# Altium integrated library Linear Technology Power Management Hot Swap Controllers.IntLib: 992 symbols (part 4 of 93)
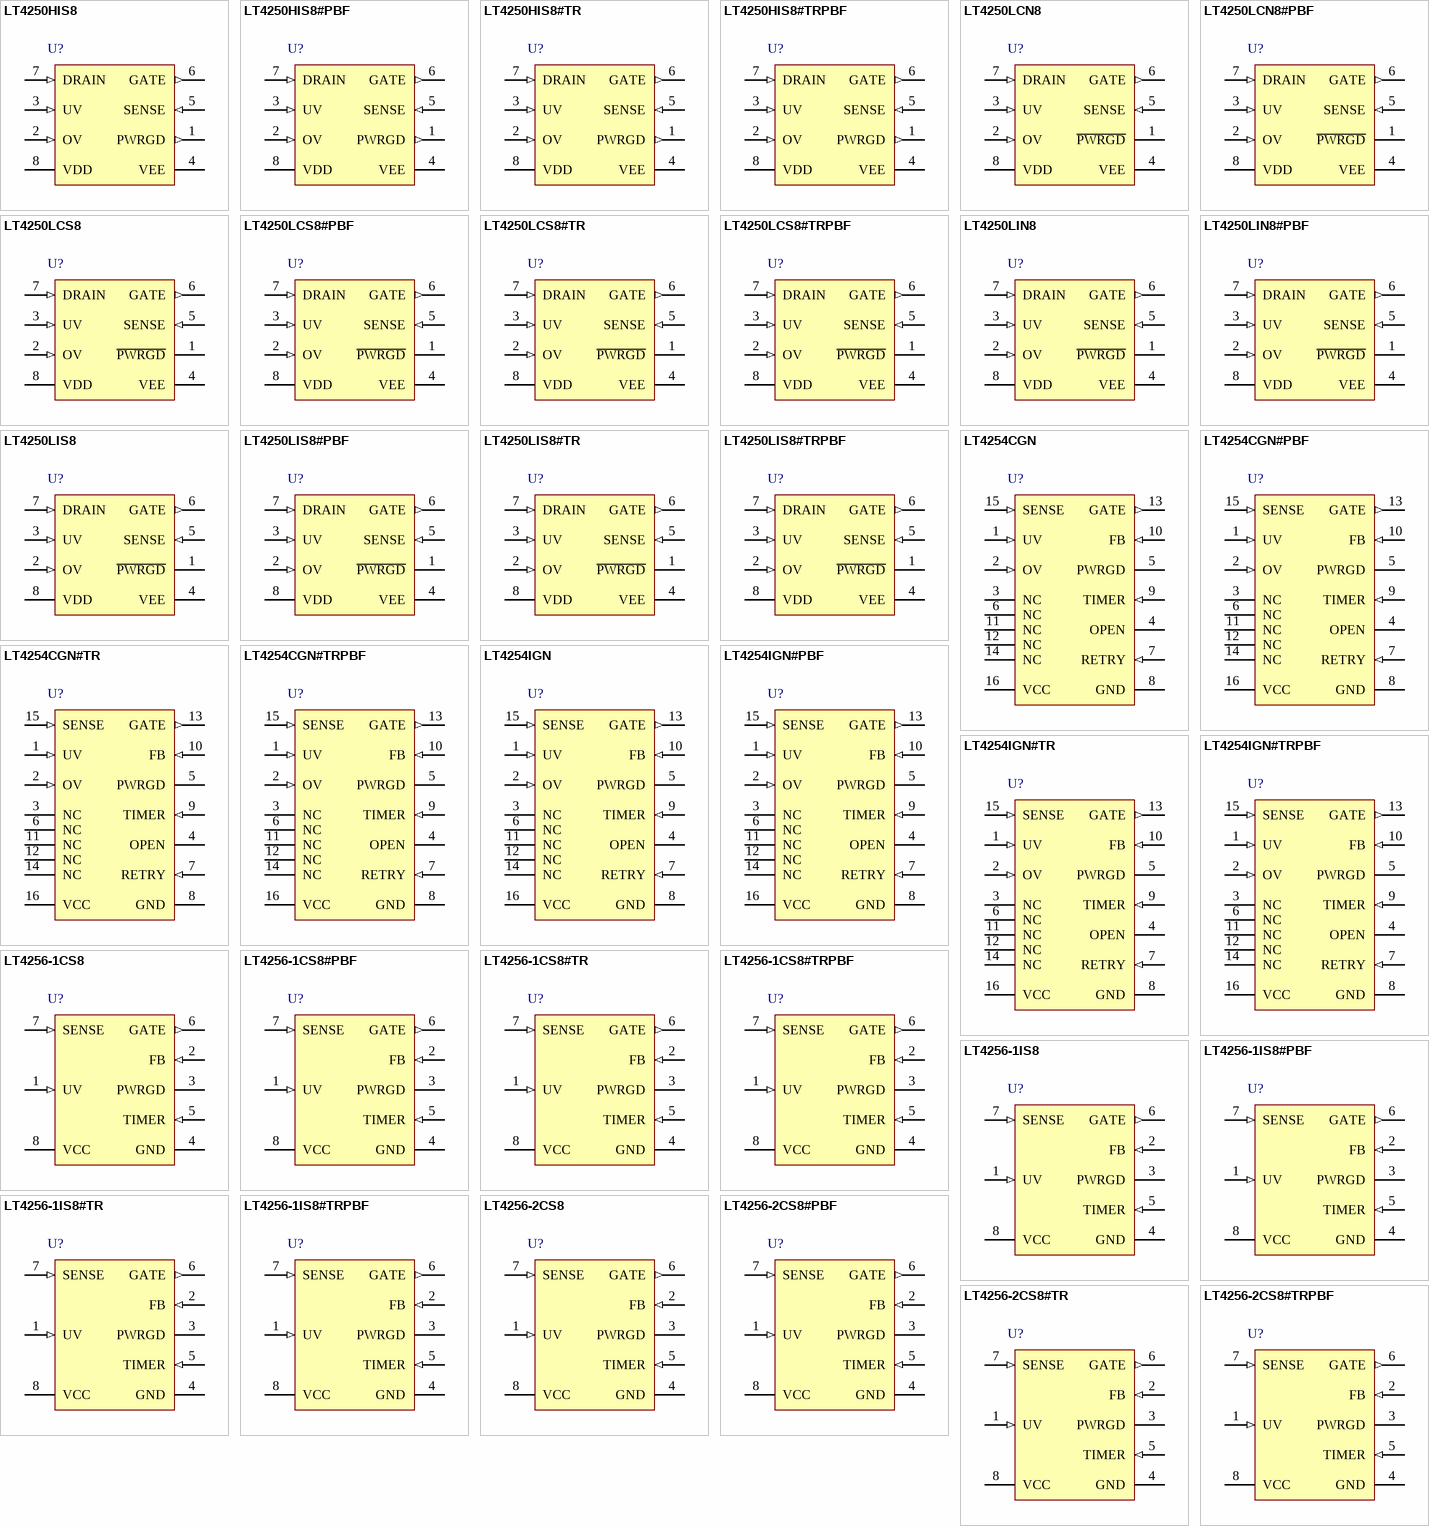
[diagram p40: symbols LT4250HIS8 to LT4256-2CS8#TRPBF]

## LT4254IGN
designator U?
Positive High Voltage Hot Swap Controller with Open-Circuit Detect, 10.8 to 36 V Vin, 16-pin SOP (GN-16), -40 to 85 degC; Manufacturer: Linear Technology; PartNumber: LT4254IGN; Active Limiting: yes; Circuit Breaker Accuracy(%): 20; Circuit Breaker Threshold: 50 mV; Circuit Breakers(#): 1; Extended Temp: C, I; Fast Comparator: no; In-Rush Current: Active; DatasheetVersion: Rev. B; PackageVersion: Rev. B, 03/2012; PackageReference: GN-16; PackageDescription: 16-Pin Plastic SSOP, Body 4.9 x 3.9 mm, Pitch 0.635 mm; Supplier 1: Digi-Key; Supplier Part Number 1: LT4254IGN-ND; Fault: no; Foldback: yes; Power Good: yes; Reset: no; RoHS: FALSE; Vin Range: 10.8 to 36 V; Mounting Technology: Surface Mount; ComponentLink1Description: Manufacturer URL; ComponentLink1URL: http://www.linear.com/; ComponentLink2Description: Datasheet; ComponentLink2URL: http://cds.linear.com/docs/en/datasheet/4254fb.pdf; ComponentLink3Description: Package Specification; ComponentLink3URL: http://cds.linear.com/docs/en/packaging/05081641_B_GN16.pdf
footprint LT-GN-16_N (SOP, 16-Leads, Body 5x4mm, Pitch 0.635mm, IPC Medium Density)
footprint LT-GN-16_L (SOP, 16-Leads, Body 5x4mm, Pitch 0.635mm, IPC High Density)
footprint LT-GN-16_M (SOP, 16-Leads, Body 5x4mm, Pitch 0.635mm, IPC Low Density)
pins: 1 UV (in) "Undervoltage Sense. UV is an input that enables the output voltage. When the UV pin is driven above 4V, the GATE pin starts charging and the output turns on. When the UV pin goes below 3.6V, the GATE pin discharges and the (See Datasheet)", 2 OV (in) "Overvoltage Sense. OV is an input that disables the output voltage. If OV ever goes above 4V, the GATE pin is discharged and the output shuts off. When OV goes below 3.6V, the GATE pin starts charging and the output turns (See Datasheet)", 3 NC, 4 OPEN (oc) "Open Circuit Detect Output. This pin is an open collector output that releases and is pulled high through an external resistor if the load current is less than (3.5mV/R5). If not used, leave this pin disconnected.", 5 PWRGD (hiz) "Open Collector Output to GND. PWRGD is pulled low whenever the voltage on FB falls below the high-to-low threshold voltage. It goes into a high impedance state when the voltage on FB exceeds the low-to-high threshold voltage.(See Datasheet)", 6 NC, 7 RETRY (in) "Current Fault Retry. RETRY commands the operational mode of the current limit. If the RETRY pin is floating, the LT4254 automatically restarts after a current fault. If it is connected to a voltage below 0.4V, the part (See Datasheet)", 8 GND (power) "Device Ground. This pin must be tied to a ground plane for best performance.", 9 TIMER (in) "Timing Input. An external timing capacitor from TIMER to GND programs the maximum time the part is allowed to remain in current limit. When the part goes into current limit, a 120uA pull-up current starts to charge the (See Datasheet)", 10 FB (in) "Power Good Comparator Input. FB monitors the output voltage through an external resistive divider. When the voltage on the FB pin is lower than the high-to-low threshold of 4V, the PWRGD pin is pulled low and released when (See Datasheet)", 11 NC, 12 NC, 13 GATE (out) "High Side Gate Drive for the External N-Channel MOSFET. An internal charge pump guarantees at least 10V of gate drive for VCC supply voltages above 20V and 4.5V gate drive for VCC supply voltages between 10.8V and 20V. The (See Datasheet)", 14 NC, 15 SENSE (in) "Current Limit Sense. A sense resistor is placed in the supply path between VCC and SENSE. The current limit circuit regulates the voltage across the sense resistor (VCC - SENSE) to 50mV while in current limit when FB is 2V (See Datasheet)", 16 VCC (power) "Input Supply Voltage. The positive supply input ranges from 10.8V to 36V for normal operation. ICC is typically 1.9mA. An internal circuit disables the LT4254 for inputs less than 9.8V (typ)."

## LT4254IGN#PBF
designator U?
Positive High Voltage Hot Swap Controller with Open-Circuit Detect, 10.8 to 36 V Vin, 16-pin SOP (GN-16), -40 to 85 degC, Pb-Free; Manufacturer: Linear Technology; PartNumber: LT4254IGN#PBF; Active Limiting: yes; Circuit Breaker Accuracy(%): 20; Circuit Breaker Threshold: 50 mV; Circuit Breakers(#): 1; Extended Temp: C, I; Fast Comparator: no; In-Rush Current: Active; DatasheetVersion: Rev. B; PackageVersion: Rev. B, 03/2012; PackageReference: GN-16; PackageDescription: 16-Pin Plastic SSOP, Body 4.9 x 3.9 mm, Pitch 0.635 mm; Supplier 1: Digi-Key; Supplier Part Number 1: LT4254IGN#PBF-ND; Supplier 2: Farnell; Supplier Part Number 2: 2295305; Supplier 3: Newark; Supplier Part Number 3: 57M8678; Fault: no; Foldback: yes; Power Good: yes; Reset: no; RoHS: TRUE; Vin Range: 10.8 to 36 V; Mounting Technology: Surface Mount; ComponentLink1Description: Manufacturer URL; ComponentLink1URL: http://www.linear.com/; ComponentLink2Description: Datasheet; ComponentLink2URL: http://cds.linear.com/docs/en/datasheet/4254fb.pdf; ComponentLink3Description: Package Specification; ComponentLink3URL: http://cds.linear.com/docs/en/packaging/05081641_B_GN16.pdf
footprint LT-GN-16_N (SOP, 16-Leads, Body 5x4mm, Pitch 0.635mm, IPC Medium Density)
footprint LT-GN-16_L (SOP, 16-Leads, Body 5x4mm, Pitch 0.635mm, IPC High Density)
footprint LT-GN-16_M (SOP, 16-Leads, Body 5x4mm, Pitch 0.635mm, IPC Low Density)
pins: 1 UV (in) "Undervoltage Sense. UV is an input that enables the output voltage. When the UV pin is driven above 4V, the GATE pin starts charging and the output turns on. When the UV pin goes below 3.6V, the GATE pin discharges and the (See Datasheet)", 2 OV (in) "Overvoltage Sense. OV is an input that disables the output voltage. If OV ever goes above 4V, the GATE pin is discharged and the output shuts off. When OV goes below 3.6V, the GATE pin starts charging and the output turns (See Datasheet)", 3 NC, 4 OPEN (oc) "Open Circuit Detect Output. This pin is an open collector output that releases and is pulled high through an external resistor if the load current is less than (3.5mV/R5). If not used, leave this pin disconnected.", 5 PWRGD (hiz) "Open Collector Output to GND. PWRGD is pulled low whenever the voltage on FB falls below the high-to-low threshold voltage. It goes into a high impedance state when the voltage on FB exceeds the low-to-high threshold voltage.(See Datasheet)", 6 NC, 7 RETRY (in) "Current Fault Retry. RETRY commands the operational mode of the current limit. If the RETRY pin is floating, the LT4254 automatically restarts after a current fault. If it is connected to a voltage below 0.4V, the part (See Datasheet)", 8 GND (power) "Device Ground. This pin must be tied to a ground plane for best performance.", 9 TIMER (in) "Timing Input. An external timing capacitor from TIMER to GND programs the maximum time the part is allowed to remain in current limit. When the part goes into current limit, a 120uA pull-up current starts to charge the (See Datasheet)", 10 FB (in) "Power Good Comparator Input. FB monitors the output voltage through an external resistive divider. When the voltage on the FB pin is lower than the high-to-low threshold of 4V, the PWRGD pin is pulled low and released when (See Datasheet)", 11 NC, 12 NC, 13 GATE (out) "High Side Gate Drive for the External N-Channel MOSFET. An internal charge pump guarantees at least 10V of gate drive for VCC supply voltages above 20V and 4.5V gate drive for VCC supply voltages between 10.8V and 20V. The (See Datasheet)", 14 NC, 15 SENSE (in) "Current Limit Sense. A sense resistor is placed in the supply path between VCC and SENSE. The current limit circuit regulates the voltage across the sense resistor (VCC - SENSE) to 50mV while in current limit when FB is 2V (See Datasheet)", 16 VCC (power) "Input Supply Voltage. The positive supply input ranges from 10.8V to 36V for normal operation. ICC is typically 1.9mA. An internal circuit disables the LT4254 for inputs less than 9.8V (typ)."

## LT4254IGN#TR
designator U?
Positive High Voltage Hot Swap Controller with Open-Circuit Detect, 10.8 to 36 V Vin, 16-pin SOP (GN-16), -40 to 85 degC, Tape and Reel; Manufacturer: Linear Technology; PartNumber: LT4254IGN#TR; Active Limiting: yes; Circuit Breaker Accuracy(%): 20; Circuit Breaker Threshold: 50 mV; Circuit Breakers(#): 1; Extended Temp: C, I; Fast Comparator: no; In-Rush Current: Active; DatasheetVersion: Rev. B; PackageVersion: Rev. B, 03/2012; PackageReference: GN-16; PackageDescription: 16-Pin Plastic SSOP, Body 4.9 x 3.9 mm, Pitch 0.635 mm; Supplier 1: Digi-Key; Supplier Part Number 1: LT4254IGN#TR-ND; Fault: no; Foldback: yes; Packing: Tape and Reel; Power Good: yes; Reset: no; RoHS: FALSE; Vin Range: 10.8 to 36 V; Mounting Technology: Surface Mount; ComponentLink1Description: Manufacturer URL; ComponentLink1URL: http://www.linear.com/; ComponentLink2Description: Datasheet; ComponentLink2URL: http://cds.linear.com/docs/en/datasheet/4254fb.pdf; ComponentLink3Description: Package Specification; ComponentLink3URL: http://cds.linear.com/docs/en/packaging/05081641_B_GN16.pdf
footprint LT-GN-16_N (SOP, 16-Leads, Body 5x4mm, Pitch 0.635mm, IPC Medium Density)
footprint LT-GN-16_L (SOP, 16-Leads, Body 5x4mm, Pitch 0.635mm, IPC High Density)
footprint LT-GN-16_M (SOP, 16-Leads, Body 5x4mm, Pitch 0.635mm, IPC Low Density)
pins: 1 UV (in) "Undervoltage Sense. UV is an input that enables the output voltage. When the UV pin is driven above 4V, the GATE pin starts charging and the output turns on. When the UV pin goes below 3.6V, the GATE pin discharges and the (See Datasheet)", 2 OV (in) "Overvoltage Sense. OV is an input that disables the output voltage. If OV ever goes above 4V, the GATE pin is discharged and the output shuts off. When OV goes below 3.6V, the GATE pin starts charging and the output turns (See Datasheet)", 3 NC, 4 OPEN (oc) "Open Circuit Detect Output. This pin is an open collector output that releases and is pulled high through an external resistor if the load current is less than (3.5mV/R5). If not used, leave this pin disconnected.", 5 PWRGD (hiz) "Open Collector Output to GND. PWRGD is pulled low whenever the voltage on FB falls below the high-to-low threshold voltage. It goes into a high impedance state when the voltage on FB exceeds the low-to-high threshold voltage.(See Datasheet)", 6 NC, 7 RETRY (in) "Current Fault Retry. RETRY commands the operational mode of the current limit. If the RETRY pin is floating, the LT4254 automatically restarts after a current fault. If it is connected to a voltage below 0.4V, the part (See Datasheet)", 8 GND (power) "Device Ground. This pin must be tied to a ground plane for best performance.", 9 TIMER (in) "Timing Input. An external timing capacitor from TIMER to GND programs the maximum time the part is allowed to remain in current limit. When the part goes into current limit, a 120uA pull-up current starts to charge the (See Datasheet)", 10 FB (in) "Power Good Comparator Input. FB monitors the output voltage through an external resistive divider. When the voltage on the FB pin is lower than the high-to-low threshold of 4V, the PWRGD pin is pulled low and released when (See Datasheet)", 11 NC, 12 NC, 13 GATE (out) "High Side Gate Drive for the External N-Channel MOSFET. An internal charge pump guarantees at least 10V of gate drive for VCC supply voltages above 20V and 4.5V gate drive for VCC supply voltages between 10.8V and 20V. The (See Datasheet)", 14 NC, 15 SENSE (in) "Current Limit Sense. A sense resistor is placed in the supply path between VCC and SENSE. The current limit circuit regulates the voltage across the sense resistor (VCC - SENSE) to 50mV while in current limit when FB is 2V (See Datasheet)", 16 VCC (power) "Input Supply Voltage. The positive supply input ranges from 10.8V to 36V for normal operation. ICC is typically 1.9mA. An internal circuit disables the LT4254 for inputs less than 9.8V (typ)."

## LT4254IGN#TRPBF
designator U?
Positive High Voltage Hot Swap Controller with Open-Circuit Detect, 10.8 to 36 V Vin, 16-pin SOP (GN-16), -40 to 85 degC, Pb-Free, Tape and Reel; Manufacturer: Linear Technology; PartNumber: LT4254IGN#TRPBF; Active Limiting: yes; Circuit Breaker Accuracy(%): 20; Circuit Breaker Threshold: 50 mV; Circuit Breakers(#): 1; Extended Temp: C, I; Fast Comparator: no; In-Rush Current: Active; DatasheetVersion: Rev. B; PackageVersion: Rev. B, 03/2012; PackageReference: GN-16; PackageDescription: 16-Pin Plastic SSOP, Body 4.9 x 3.9 mm, Pitch 0.635 mm; Supplier 1: Digi-Key; Supplier Part Number 1: LT4254IGN#TRPBF-ND; Supplier 2: Newark; Supplier Part Number 2: 57M8680; Fault: no; Foldback: yes; Packing: Tape and Reel; Power Good: yes; Reset: no; RoHS: TRUE; Vin Range: 10.8 to 36 V; Mounting Technology: Surface Mount; ComponentLink1Description: Manufacturer URL; ComponentLink1URL: http://www.linear.com/; ComponentLink2Description: Datasheet; ComponentLink2URL: http://cds.linear.com/docs/en/datasheet/4254fb.pdf; ComponentLink3Description: Package Specification; ComponentLink3URL: http://cds.linear.com/docs/en/packaging/05081641_B_GN16.pdf
footprint LT-GN-16_N (SOP, 16-Leads, Body 5x4mm, Pitch 0.635mm, IPC Medium Density)
footprint LT-GN-16_L (SOP, 16-Leads, Body 5x4mm, Pitch 0.635mm, IPC High Density)
footprint LT-GN-16_M (SOP, 16-Leads, Body 5x4mm, Pitch 0.635mm, IPC Low Density)
pins: 1 UV (in) "Undervoltage Sense. UV is an input that enables the output voltage. When the UV pin is driven above 4V, the GATE pin starts charging and the output turns on. When the UV pin goes below 3.6V, the GATE pin discharges and the (See Datasheet)", 2 OV (in) "Overvoltage Sense. OV is an input that disables the output voltage. If OV ever goes above 4V, the GATE pin is discharged and the output shuts off. When OV goes below 3.6V, the GATE pin starts charging and the output turns (See Datasheet)", 3 NC, 4 OPEN (oc) "Open Circuit Detect Output. This pin is an open collector output that releases and is pulled high through an external resistor if the load current is less than (3.5mV/R5). If not used, leave this pin disconnected.", 5 PWRGD (hiz) "Open Collector Output to GND. PWRGD is pulled low whenever the voltage on FB falls below the high-to-low threshold voltage. It goes into a high impedance state when the voltage on FB exceeds the low-to-high threshold voltage.(See Datasheet)", 6 NC, 7 RETRY (in) "Current Fault Retry. RETRY commands the operational mode of the current limit. If the RETRY pin is floating, the LT4254 automatically restarts after a current fault. If it is connected to a voltage below 0.4V, the part (See Datasheet)", 8 GND (power) "Device Ground. This pin must be tied to a ground plane for best performance.", 9 TIMER (in) "Timing Input. An external timing capacitor from TIMER to GND programs the maximum time the part is allowed to remain in current limit. When the part goes into current limit, a 120uA pull-up current starts to charge the (See Datasheet)", 10 FB (in) "Power Good Comparator Input. FB monitors the output voltage through an external resistive divider. When the voltage on the FB pin is lower than the high-to-low threshold of 4V, the PWRGD pin is pulled low and released when (See Datasheet)", 11 NC, 12 NC, 13 GATE (out) "High Side Gate Drive for the External N-Channel MOSFET. An internal charge pump guarantees at least 10V of gate drive for VCC supply voltages above 20V and 4.5V gate drive for VCC supply voltages between 10.8V and 20V. The (See Datasheet)", 14 NC, 15 SENSE (in) "Current Limit Sense. A sense resistor is placed in the supply path between VCC and SENSE. The current limit circuit regulates the voltage across the sense resistor (VCC - SENSE) to 50mV while in current limit when FB is 2V (See Datasheet)", 16 VCC (power) "Input Supply Voltage. The positive supply input ranges from 10.8V to 36V for normal operation. ICC is typically 1.9mA. An internal circuit disables the LT4254 for inputs less than 9.8V (typ)."

## LT4256-1CS8
designator U?
Positive High Voltage Hot Swap Controller, 10.8 to 80 V Vin, 8-pin SOIC (S8-8), 0 to 70 degC; Manufacturer: Linear Technology; PartNumber: LT4256-1CS8; Active Limiting: yes; Circuit Breaker Accuracy(%): 18; Circuit Breaker Threshold: 55 mV; Circuit Breakers(#): 1; Extended Temp: C, I; Fast Comparator: no; In-Rush Current: Active; DatasheetVersion: Rev. A; PackageVersion: Rev. G, 03/2012; PackageReference: S8-8; PackageDescription: 8-Pin Plastic Small Outline (Narrow .150 Inch), Body 4.9 x 3.9 mm, Pitch 1.27 mm; Supplier 1: Digi-Key; Supplier Part Number 1: LT4256-1CS8-ND; Supplier 2: Newark; Supplier Part Number 2: 57M8681; Fault: no; Foldback: yes; Power Good: yes; Reset: no; RoHS: FALSE; Vin Range: 10.8 to 80 V; Mounting Technology: Surface Mount; ComponentLink1Description: Manufacturer URL; ComponentLink1URL: http://www.linear.com/; ComponentLink2Description: Datasheet; ComponentLink2URL: http://cds.linear.com/docs/en/datasheet/425612fa.pm6.pdf; ComponentLink3Description: Package Specification; ComponentLink3URL: http://cds.linear.com/docs/en/packaging/05081610_G_SO8.pdf
footprint LT-S8-8_N (SOIC, 8-Leads, Body 5x4mm, Pitch 1.27mm, IPC Medium Density)
footprint LT-S8-8_L (SOIC, 8-Leads, Body 5x4mm, Pitch 1.27mm, IPC High Density)
footprint LT-S8-8_M (SOIC, 8-Leads, Body 5x4mm, Pitch 1.27mm, IPC Low Density)
pins: 1 UV (in) "Undervoltage Sense. UV is an input that enables the output voltage. When UV is driven above 4V, GATE will start charging and the output turns on. When UV goes below 3.6V, GATE discharges and the output shuts off. Pulsing UV (See Datasheet)", 2 FB (in) "Power Good Comparator Input. FB monitors the output voltage through an external resistive divider. When the voltage on FB is lower than the high-to-low threshold of 3.99V, PWRGD is pulled low and released when FB is pulled (See Datasheet)", 3 PWRGD (hiz) "Power Good Output. PWRGD is pulled low whenever the voltage on FB falls below the 3.99V high-to-low threshold voltage. It goes into a high impedance state when the voltage on FB exceeds the low-to-high threshold voltage. An (See Datasheet)", 4 GND (power) "Device Ground. This pin must be tied to a ground plane for best performance.", 5 TIMER (in) "Timing Input. An external timing capacitor from TIMER to GND programs the maximum time the part is allowed to remain in current limit. When the part goes into current limit, a 105uA pull-up current source starts to charge (See Datasheet)", 6 GATE (out) "High Side Gate Drive for the External NChannel MOSFET. An internal charge pump guarantees at least 10V of gate drive for VCC supply voltages above 20V and 4.5V of gate drive for VCC supply voltages between 10.8V and 20V. The (See Datasheet)", 7 SENSE (in) "Current Limit Sense Input. A sense resistor is placed in the supply path between VCC and SENSE. The current limit circuit regulates the voltage across the sense resistor (VCC - SENSE) to 55mV while in current limit when FB (See Datasheet)", 8 VCC (power) "Input Supply Voltage. The positive supply input ranges from 10.8V to 80V for normal operation. ICC is typically 1.8mA. An internal circuit disables the LT4256-1/LT4256-2 for inputs less than 9.8V (typ)."

## LT4256-1CS8#PBF
designator U?
Positive High Voltage Hot Swap Controller, 10.8 to 80 V Vin, 8-pin SOIC (S8-8), 0 to 70 degC, Pb-Free; Manufacturer: Linear Technology; PartNumber: LT4256-1CS8#PBF; Active Limiting: yes; Circuit Breaker Accuracy(%): 18; Circuit Breaker Threshold: 55 mV; Circuit Breakers(#): 1; Extended Temp: C, I; Fast Comparator: no; In-Rush Current: Active; DatasheetVersion: Rev. A; PackageVersion: Rev. G, 03/2012; PackageReference: S8-8; PackageDescription: 8-Pin Plastic Small Outline (Narrow .150 Inch), Body 4.9 x 3.9 mm, Pitch 1.27 mm; Supplier 1: Digi-Key; Supplier Part Number 1: LT4256-1CS8#PBF-ND; Supplier 2: Farnell; Supplier Part Number 2: 2295306; Supplier 3: Newark; Supplier Part Number 3: 57M8682; Fault: no; Foldback: yes; Power Good: yes; Reset: no; RoHS: TRUE; Vin Range: 10.8 to 80 V; Mounting Technology: Surface Mount; ComponentLink1Description: Manufacturer URL; ComponentLink1URL: http://www.linear.com/; ComponentLink2Description: Datasheet; ComponentLink2URL: http://cds.linear.com/docs/en/datasheet/425612fa.pm6.pdf; ComponentLink3Description: Package Specification; ComponentLink3URL: http://cds.linear.com/docs/en/packaging/05081610_G_SO8.pdf
footprint LT-S8-8_N (SOIC, 8-Leads, Body 5x4mm, Pitch 1.27mm, IPC Medium Density)
footprint LT-S8-8_L (SOIC, 8-Leads, Body 5x4mm, Pitch 1.27mm, IPC High Density)
footprint LT-S8-8_M (SOIC, 8-Leads, Body 5x4mm, Pitch 1.27mm, IPC Low Density)
pins: 1 UV (in) "Undervoltage Sense. UV is an input that enables the output voltage. When UV is driven above 4V, GATE will start charging and the output turns on. When UV goes below 3.6V, GATE discharges and the output shuts off. Pulsing UV (See Datasheet)", 2 FB (in) "Power Good Comparator Input. FB monitors the output voltage through an external resistive divider. When the voltage on FB is lower than the high-to-low threshold of 3.99V, PWRGD is pulled low and released when FB is pulled (See Datasheet)", 3 PWRGD (hiz) "Power Good Output. PWRGD is pulled low whenever the voltage on FB falls below the 3.99V high-to-low threshold voltage. It goes into a high impedance state when the voltage on FB exceeds the low-to-high threshold voltage. An (See Datasheet)", 4 GND (power) "Device Ground. This pin must be tied to a ground plane for best performance.", 5 TIMER (in) "Timing Input. An external timing capacitor from TIMER to GND programs the maximum time the part is allowed to remain in current limit. When the part goes into current limit, a 105uA pull-up current source starts to charge (See Datasheet)", 6 GATE (out) "High Side Gate Drive for the External NChannel MOSFET. An internal charge pump guarantees at least 10V of gate drive for VCC supply voltages above 20V and 4.5V of gate drive for VCC supply voltages between 10.8V and 20V. The (See Datasheet)", 7 SENSE (in) "Current Limit Sense Input. A sense resistor is placed in the supply path between VCC and SENSE. The current limit circuit regulates the voltage across the sense resistor (VCC - SENSE) to 55mV while in current limit when FB (See Datasheet)", 8 VCC (power) "Input Supply Voltage. The positive supply input ranges from 10.8V to 80V for normal operation. ICC is typically 1.8mA. An internal circuit disables the LT4256-1/LT4256-2 for inputs less than 9.8V (typ)."

## LT4256-1CS8#TR
designator U?
Positive High Voltage Hot Swap Controller, 10.8 to 80 V Vin, 8-pin SOIC (S8-8), 0 to 70 degC, Tape and Reel; Manufacturer: Linear Technology; PartNumber: LT4256-1CS8#TR; Active Limiting: yes; Circuit Breaker Accuracy(%): 18; Circuit Breaker Threshold: 55 mV; Circuit Breakers(#): 1; Extended Temp: C, I; Fast Comparator: no; In-Rush Current: Active; DatasheetVersion: Rev. A; PackageVersion: Rev. G, 03/2012; PackageReference: S8-8; PackageDescription: 8-Pin Plastic Small Outline (Narrow .150 Inch), Body 4.9 x 3.9 mm, Pitch 1.27 mm; Supplier 1: Digi-Key; Supplier Part Number 1: LT4256-1CS8#TR-ND; Fault: no; Foldback: yes; Packing: Tape and Reel; Power Good: yes; Reset: no; RoHS: FALSE; Vin Range: 10.8 to 80 V; Mounting Technology: Surface Mount; ComponentLink1Description: Manufacturer URL; ComponentLink1URL: http://www.linear.com/; ComponentLink2Description: Datasheet; ComponentLink2URL: http://cds.linear.com/docs/en/datasheet/425612fa.pm6.pdf; ComponentLink3Description: Package Specification; ComponentLink3URL: http://cds.linear.com/docs/en/packaging/05081610_G_SO8.pdf
footprint LT-S8-8_N (SOIC, 8-Leads, Body 5x4mm, Pitch 1.27mm, IPC Medium Density)
footprint LT-S8-8_L (SOIC, 8-Leads, Body 5x4mm, Pitch 1.27mm, IPC High Density)
footprint LT-S8-8_M (SOIC, 8-Leads, Body 5x4mm, Pitch 1.27mm, IPC Low Density)
pins: 1 UV (in) "Undervoltage Sense. UV is an input that enables the output voltage. When UV is driven above 4V, GATE will start charging and the output turns on. When UV goes below 3.6V, GATE discharges and the output shuts off. Pulsing UV (See Datasheet)", 2 FB (in) "Power Good Comparator Input. FB monitors the output voltage through an external resistive divider. When the voltage on FB is lower than the high-to-low threshold of 3.99V, PWRGD is pulled low and released when FB is pulled (See Datasheet)", 3 PWRGD (hiz) "Power Good Output. PWRGD is pulled low whenever the voltage on FB falls below the 3.99V high-to-low threshold voltage. It goes into a high impedance state when the voltage on FB exceeds the low-to-high threshold voltage. An (See Datasheet)", 4 GND (power) "Device Ground. This pin must be tied to a ground plane for best performance.", 5 TIMER (in) "Timing Input. An external timing capacitor from TIMER to GND programs the maximum time the part is allowed to remain in current limit. When the part goes into current limit, a 105uA pull-up current source starts to charge (See Datasheet)", 6 GATE (out) "High Side Gate Drive for the External NChannel MOSFET. An internal charge pump guarantees at least 10V of gate drive for VCC supply voltages above 20V and 4.5V of gate drive for VCC supply voltages between 10.8V and 20V. The (See Datasheet)", 7 SENSE (in) "Current Limit Sense Input. A sense resistor is placed in the supply path between VCC and SENSE. The current limit circuit regulates the voltage across the sense resistor (VCC - SENSE) to 55mV while in current limit when FB (See Datasheet)", 8 VCC (power) "Input Supply Voltage. The positive supply input ranges from 10.8V to 80V for normal operation. ICC is typically 1.8mA. An internal circuit disables the LT4256-1/LT4256-2 for inputs less than 9.8V (typ)."

## LT4256-1CS8#TRPBF
designator U?
Positive High Voltage Hot Swap Controller, 10.8 to 80 V Vin, 8-pin SOIC (S8-8), 0 to 70 degC, Pb-Free, Tape and Reel; Manufacturer: Linear Technology; PartNumber: LT4256-1CS8#TRPBF; Active Limiting: yes; Circuit Breaker Accuracy(%): 18; Circuit Breaker Threshold: 55 mV; Circuit Breakers(#): 1; Extended Temp: C, I; Fast Comparator: no; In-Rush Current: Active; DatasheetVersion: Rev. A; PackageVersion: Rev. G, 03/2012; PackageReference: S8-8; PackageDescription: 8-Pin Plastic Small Outline (Narrow .150 Inch), Body 4.9 x 3.9 mm, Pitch 1.27 mm; Supplier 1: Digi-Key; Supplier Part Number 1: LT4256-1CS8#TRPBF-ND; Supplier 2: Newark; Supplier Part Number 2: 57M8684; Fault: no; Foldback: yes; Packing: Tape and Reel; Power Good: yes; Reset: no; RoHS: TRUE; Vin Range: 10.8 to 80 V; Mounting Technology: Surface Mount; ComponentLink1Description: Manufacturer URL; ComponentLink1URL: http://www.linear.com/; ComponentLink2Description: Datasheet; ComponentLink2URL: http://cds.linear.com/docs/en/datasheet/425612fa.pm6.pdf; ComponentLink3Description: Package Specification; ComponentLink3URL: http://cds.linear.com/docs/en/packaging/05081610_G_SO8.pdf
footprint LT-S8-8_N (SOIC, 8-Leads, Body 5x4mm, Pitch 1.27mm, IPC Medium Density)
footprint LT-S8-8_L (SOIC, 8-Leads, Body 5x4mm, Pitch 1.27mm, IPC High Density)
footprint LT-S8-8_M (SOIC, 8-Leads, Body 5x4mm, Pitch 1.27mm, IPC Low Density)
pins: 1 UV (in) "Undervoltage Sense. UV is an input that enables the output voltage. When UV is driven above 4V, GATE will start charging and the output turns on. When UV goes below 3.6V, GATE discharges and the output shuts off. Pulsing UV (See Datasheet)", 2 FB (in) "Power Good Comparator Input. FB monitors the output voltage through an external resistive divider. When the voltage on FB is lower than the high-to-low threshold of 3.99V, PWRGD is pulled low and released when FB is pulled (See Datasheet)", 3 PWRGD (hiz) "Power Good Output. PWRGD is pulled low whenever the voltage on FB falls below the 3.99V high-to-low threshold voltage. It goes into a high impedance state when the voltage on FB exceeds the low-to-high threshold voltage. An (See Datasheet)", 4 GND (power) "Device Ground. This pin must be tied to a ground plane for best performance.", 5 TIMER (in) "Timing Input. An external timing capacitor from TIMER to GND programs the maximum time the part is allowed to remain in current limit. When the part goes into current limit, a 105uA pull-up current source starts to charge (See Datasheet)", 6 GATE (out) "High Side Gate Drive for the External NChannel MOSFET. An internal charge pump guarantees at least 10V of gate drive for VCC supply voltages above 20V and 4.5V of gate drive for VCC supply voltages between 10.8V and 20V. The (See Datasheet)", 7 SENSE (in) "Current Limit Sense Input. A sense resistor is placed in the supply path between VCC and SENSE. The current limit circuit regulates the voltage across the sense resistor (VCC - SENSE) to 55mV while in current limit when FB (See Datasheet)", 8 VCC (power) "Input Supply Voltage. The positive supply input ranges from 10.8V to 80V for normal operation. ICC is typically 1.8mA. An internal circuit disables the LT4256-1/LT4256-2 for inputs less than 9.8V (typ)."

## LT4256-1IS8
designator U?
Positive High Voltage Hot Swap Controller, 10.8 to 80 V Vin, 8-pin SOIC (S8-8), -40 to 85 degC; Manufacturer: Linear Technology; PartNumber: LT4256-1IS8; Active Limiting: yes; Circuit Breaker Accuracy(%): 18; Circuit Breaker Threshold: 55 mV; Circuit Breakers(#): 1; Extended Temp: C, I; Fast Comparator: no; In-Rush Current: Active; DatasheetVersion: Rev. A; PackageVersion: Rev. G, 03/2012; PackageReference: S8-8; PackageDescription: 8-Pin Plastic Small Outline (Narrow .150 Inch), Body 4.9 x 3.9 mm, Pitch 1.27 mm; Supplier 1: Digi-Key; Supplier Part Number 1: LT4256-1IS8-ND; Supplier 2: Newark; Supplier Part Number 2: 57M8685; Fault: no; Foldback: yes; Power Good: yes; Reset: no; RoHS: FALSE; Vin Range: 10.8 to 80 V; Mounting Technology: Surface Mount; ComponentLink1Description: Manufacturer URL; ComponentLink1URL: http://www.linear.com/; ComponentLink2Description: Datasheet; ComponentLink2URL: http://cds.linear.com/docs/en/datasheet/425612fa.pm6.pdf; ComponentLink3Description: Package Specification; ComponentLink3URL: http://cds.linear.com/docs/en/packaging/05081610_G_SO8.pdf
footprint LT-S8-8_N (SOIC, 8-Leads, Body 5x4mm, Pitch 1.27mm, IPC Medium Density)
footprint LT-S8-8_L (SOIC, 8-Leads, Body 5x4mm, Pitch 1.27mm, IPC High Density)
footprint LT-S8-8_M (SOIC, 8-Leads, Body 5x4mm, Pitch 1.27mm, IPC Low Density)
pins: 1 UV (in) "Undervoltage Sense. UV is an input that enables the output voltage. When UV is driven above 4V, GATE will start charging and the output turns on. When UV goes below 3.6V, GATE discharges and the output shuts off. Pulsing UV (See Datasheet)", 2 FB (in) "Power Good Comparator Input. FB monitors the output voltage through an external resistive divider. When the voltage on FB is lower than the high-to-low threshold of 3.99V, PWRGD is pulled low and released when FB is pulled (See Datasheet)", 3 PWRGD (hiz) "Power Good Output. PWRGD is pulled low whenever the voltage on FB falls below the 3.99V high-to-low threshold voltage. It goes into a high impedance state when the voltage on FB exceeds the low-to-high threshold voltage. An (See Datasheet)", 4 GND (power) "Device Ground. This pin must be tied to a ground plane for best performance.", 5 TIMER (in) "Timing Input. An external timing capacitor from TIMER to GND programs the maximum time the part is allowed to remain in current limit. When the part goes into current limit, a 105uA pull-up current source starts to charge (See Datasheet)", 6 GATE (out) "High Side Gate Drive for the External NChannel MOSFET. An internal charge pump guarantees at least 10V of gate drive for VCC supply voltages above 20V and 4.5V of gate drive for VCC supply voltages between 10.8V and 20V. The (See Datasheet)", 7 SENSE (in) "Current Limit Sense Input. A sense resistor is placed in the supply path between VCC and SENSE. The current limit circuit regulates the voltage across the sense resistor (VCC - SENSE) to 55mV while in current limit when FB (See Datasheet)", 8 VCC (power) "Input Supply Voltage. The positive supply input ranges from 10.8V to 80V for normal operation. ICC is typically 1.8mA. An internal circuit disables the LT4256-1/LT4256-2 for inputs less than 9.8V (typ)."

## LT4256-1IS8#PBF
designator U?
Positive High Voltage Hot Swap Controller, 10.8 to 80 V Vin, 8-pin SOIC (S8-8), -40 to 85 degC, Pb-Free; Manufacturer: Linear Technology; PartNumber: LT4256-1IS8#PBF; Active Limiting: yes; Circuit Breaker Accuracy(%): 18; Circuit Breaker Threshold: 55 mV; Circuit Breakers(#): 1; Extended Temp: C, I; Fast Comparator: no; In-Rush Current: Active; DatasheetVersion: Rev. A; PackageVersion: Rev. G, 03/2012; PackageReference: S8-8; PackageDescription: 8-Pin Plastic Small Outline (Narrow .150 Inch), Body 4.9 x 3.9 mm, Pitch 1.27 mm; Supplier 1: Digi-Key; Supplier Part Number 1: LT4256-1IS8#PBF-ND; Supplier 2: Farnell; Supplier Part Number 2: 2295307; Supplier 3: Newark; Supplier Part Number 3: 57M8686; Fault: no; Foldback: yes; Power Good: yes; Reset: no; RoHS: TRUE; Vin Range: 10.8 to 80 V; Mounting Technology: Surface Mount; ComponentLink1Description: Manufacturer URL; ComponentLink1URL: http://www.linear.com/; ComponentLink2Description: Datasheet; ComponentLink2URL: http://cds.linear.com/docs/en/datasheet/425612fa.pm6.pdf; ComponentLink3Description: Package Specification; ComponentLink3URL: http://cds.linear.com/docs/en/packaging/05081610_G_SO8.pdf
footprint LT-S8-8_N (SOIC, 8-Leads, Body 5x4mm, Pitch 1.27mm, IPC Medium Density)
footprint LT-S8-8_L (SOIC, 8-Leads, Body 5x4mm, Pitch 1.27mm, IPC High Density)
footprint LT-S8-8_M (SOIC, 8-Leads, Body 5x4mm, Pitch 1.27mm, IPC Low Density)
pins: 1 UV (in) "Undervoltage Sense. UV is an input that enables the output voltage. When UV is driven above 4V, GATE will start charging and the output turns on. When UV goes below 3.6V, GATE discharges and the output shuts off. Pulsing UV (See Datasheet)", 2 FB (in) "Power Good Comparator Input. FB monitors the output voltage through an external resistive divider. When the voltage on FB is lower than the high-to-low threshold of 3.99V, PWRGD is pulled low and released when FB is pulled (See Datasheet)", 3 PWRGD (hiz) "Power Good Output. PWRGD is pulled low whenever the voltage on FB falls below the 3.99V high-to-low threshold voltage. It goes into a high impedance state when the voltage on FB exceeds the low-to-high threshold voltage. An (See Datasheet)", 4 GND (power) "Device Ground. This pin must be tied to a ground plane for best performance.", 5 TIMER (in) "Timing Input. An external timing capacitor from TIMER to GND programs the maximum time the part is allowed to remain in current limit. When the part goes into current limit, a 105uA pull-up current source starts to charge (See Datasheet)", 6 GATE (out) "High Side Gate Drive for the External NChannel MOSFET. An internal charge pump guarantees at least 10V of gate drive for VCC supply voltages above 20V and 4.5V of gate drive for VCC supply voltages between 10.8V and 20V. The (See Datasheet)", 7 SENSE (in) "Current Limit Sense Input. A sense resistor is placed in the supply path between VCC and SENSE. The current limit circuit regulates the voltage across the sense resistor (VCC - SENSE) to 55mV while in current limit when FB (See Datasheet)", 8 VCC (power) "Input Supply Voltage. The positive supply input ranges from 10.8V to 80V for normal operation. ICC is typically 1.8mA. An internal circuit disables the LT4256-1/LT4256-2 for inputs less than 9.8V (typ)."

## LT4256-1IS8#TR
designator U?
Positive High Voltage Hot Swap Controller, 10.8 to 80 V Vin, 8-pin SOIC (S8-8), -40 to 85 degC, Tape and Reel; Manufacturer: Linear Technology; PartNumber: LT4256-1IS8#TR; Active Limiting: yes; Circuit Breaker Accuracy(%): 18; Circuit Breaker Threshold: 55 mV; Circuit Breakers(#): 1; Extended Temp: C, I; Fast Comparator: no; In-Rush Current: Active; DatasheetVersion: Rev. A; PackageVersion: Rev. G, 03/2012; PackageReference: S8-8; PackageDescription: 8-Pin Plastic Small Outline (Narrow .150 Inch), Body 4.9 x 3.9 mm, Pitch 1.27 mm; Supplier 1: Digi-Key; Supplier Part Number 1: LT4256-1IS8#TR-ND; Supplier 2: Newark; Supplier Part Number 2: 57M8687; Fault: no; Foldback: yes; Packing: Tape and Reel; Power Good: yes; Reset: no; RoHS: FALSE; Vin Range: 10.8 to 80 V; Mounting Technology: Surface Mount; ComponentLink1Description: Manufacturer URL; ComponentLink1URL: http://www.linear.com/; ComponentLink2Description: Datasheet; ComponentLink2URL: http://cds.linear.com/docs/en/datasheet/425612fa.pm6.pdf; ComponentLink3Description: Package Specification; ComponentLink3URL: http://cds.linear.com/docs/en/packaging/05081610_G_SO8.pdf
footprint LT-S8-8_N (SOIC, 8-Leads, Body 5x4mm, Pitch 1.27mm, IPC Medium Density)
footprint LT-S8-8_L (SOIC, 8-Leads, Body 5x4mm, Pitch 1.27mm, IPC High Density)
footprint LT-S8-8_M (SOIC, 8-Leads, Body 5x4mm, Pitch 1.27mm, IPC Low Density)
pins: 1 UV (in) "Undervoltage Sense. UV is an input that enables the output voltage. When UV is driven above 4V, GATE will start charging and the output turns on. When UV goes below 3.6V, GATE discharges and the output shuts off. Pulsing UV (See Datasheet)", 2 FB (in) "Power Good Comparator Input. FB monitors the output voltage through an external resistive divider. When the voltage on FB is lower than the high-to-low threshold of 3.99V, PWRGD is pulled low and released when FB is pulled (See Datasheet)", 3 PWRGD (hiz) "Power Good Output. PWRGD is pulled low whenever the voltage on FB falls below the 3.99V high-to-low threshold voltage. It goes into a high impedance state when the voltage on FB exceeds the low-to-high threshold voltage. An (See Datasheet)", 4 GND (power) "Device Ground. This pin must be tied to a ground plane for best performance.", 5 TIMER (in) "Timing Input. An external timing capacitor from TIMER to GND programs the maximum time the part is allowed to remain in current limit. When the part goes into current limit, a 105uA pull-up current source starts to charge (See Datasheet)", 6 GATE (out) "High Side Gate Drive for the External NChannel MOSFET. An internal charge pump guarantees at least 10V of gate drive for VCC supply voltages above 20V and 4.5V of gate drive for VCC supply voltages between 10.8V and 20V. The (See Datasheet)", 7 SENSE (in) "Current Limit Sense Input. A sense resistor is placed in the supply path between VCC and SENSE. The current limit circuit regulates the voltage across the sense resistor (VCC - SENSE) to 55mV while in current limit when FB (See Datasheet)", 8 VCC (power) "Input Supply Voltage. The positive supply input ranges from 10.8V to 80V for normal operation. ICC is typically 1.8mA. An internal circuit disables the LT4256-1/LT4256-2 for inputs less than 9.8V (typ)."

## LT4256-1IS8#TRPBF
designator U?
Positive High Voltage Hot Swap Controller, 10.8 to 80 V Vin, 8-pin SOIC (S8-8), -40 to 85 degC, Pb-Free, Tape and Reel; Manufacturer: Linear Technology; PartNumber: LT4256-1IS8#TRPBF; Active Limiting: yes; Circuit Breaker Accuracy(%): 18; Circuit Breaker Threshold: 55 mV; Circuit Breakers(#): 1; Extended Temp: C, I; Fast Comparator: no; In-Rush Current: Active; DatasheetVersion: Rev. A; PackageVersion: Rev. G, 03/2012; PackageReference: S8-8; PackageDescription: 8-Pin Plastic Small Outline (Narrow .150 Inch), Body 4.9 x 3.9 mm, Pitch 1.27 mm; Supplier 1: Digi-Key; Supplier Part Number 1: LT4256-1IS8#TRPBF-ND; Supplier 2: Newark; Supplier Part Number 2: 57M8688; Fault: no; Foldback: yes; Packing: Tape and Reel; Power Good: yes; Reset: no; RoHS: TRUE; Vin Range: 10.8 to 80 V; Mounting Technology: Surface Mount; ComponentLink1Description: Manufacturer URL; ComponentLink1URL: http://www.linear.com/; ComponentLink2Description: Datasheet; ComponentLink2URL: http://cds.linear.com/docs/en/datasheet/425612fa.pm6.pdf; ComponentLink3Description: Package Specification; ComponentLink3URL: http://cds.linear.com/docs/en/packaging/05081610_G_SO8.pdf
footprint LT-S8-8_N (SOIC, 8-Leads, Body 5x4mm, Pitch 1.27mm, IPC Medium Density)
footprint LT-S8-8_L (SOIC, 8-Leads, Body 5x4mm, Pitch 1.27mm, IPC High Density)
footprint LT-S8-8_M (SOIC, 8-Leads, Body 5x4mm, Pitch 1.27mm, IPC Low Density)
pins: 1 UV (in) "Undervoltage Sense. UV is an input that enables the output voltage. When UV is driven above 4V, GATE will start charging and the output turns on. When UV goes below 3.6V, GATE discharges and the output shuts off. Pulsing UV (See Datasheet)", 2 FB (in) "Power Good Comparator Input. FB monitors the output voltage through an external resistive divider. When the voltage on FB is lower than the high-to-low threshold of 3.99V, PWRGD is pulled low and released when FB is pulled (See Datasheet)", 3 PWRGD (hiz) "Power Good Output. PWRGD is pulled low whenever the voltage on FB falls below the 3.99V high-to-low threshold voltage. It goes into a high impedance state when the voltage on FB exceeds the low-to-high threshold voltage. An (See Datasheet)", 4 GND (power) "Device Ground. This pin must be tied to a ground plane for best performance.", 5 TIMER (in) "Timing Input. An external timing capacitor from TIMER to GND programs the maximum time the part is allowed to remain in current limit. When the part goes into current limit, a 105uA pull-up current source starts to charge (See Datasheet)", 6 GATE (out) "High Side Gate Drive for the External NChannel MOSFET. An internal charge pump guarantees at least 10V of gate drive for VCC supply voltages above 20V and 4.5V of gate drive for VCC supply voltages between 10.8V and 20V. The (See Datasheet)", 7 SENSE (in) "Current Limit Sense Input. A sense resistor is placed in the supply path between VCC and SENSE. The current limit circuit regulates the voltage across the sense resistor (VCC - SENSE) to 55mV while in current limit when FB (See Datasheet)", 8 VCC (power) "Input Supply Voltage. The positive supply input ranges from 10.8V to 80V for normal operation. ICC is typically 1.8mA. An internal circuit disables the LT4256-1/LT4256-2 for inputs less than 9.8V (typ)."

## LT4256-2CS8
designator U?
Positive High Voltage Hot Swap Controller, 10.8 to 80 V Vin, 8-pin SOIC (S8-8), 0 to 70 degC; Manufacturer: Linear Technology; PartNumber: LT4256-2CS8; Active Limiting: yes; Circuit Breaker Accuracy(%): 18; Circuit Breaker Threshold: 55 mV; Circuit Breakers(#): 1; Extended Temp: C, I; Fast Comparator: no; In-Rush Current: Active; DatasheetVersion: Rev. A; PackageVersion: Rev. G, 03/2012; PackageReference: S8-8; PackageDescription: 8-Pin Plastic Small Outline (Narrow .150 Inch), Body 4.9 x 3.9 mm, Pitch 1.27 mm; Supplier 1: Digi-Key; Supplier Part Number 1: LT4256-2CS8-ND; Supplier 2: Newark; Supplier Part Number 2: 57M8689; Fault: no; Foldback: yes; Power Good: yes; Reset: no; RoHS: FALSE; Vin Range: 10.8 to 80 V; Mounting Technology: Surface Mount; ComponentLink1Description: Manufacturer URL; ComponentLink1URL: http://www.linear.com/; ComponentLink2Description: Datasheet; ComponentLink2URL: http://cds.linear.com/docs/en/datasheet/425612fa.pm6.pdf; ComponentLink3Description: Package Specification; ComponentLink3URL: http://cds.linear.com/docs/en/packaging/05081610_G_SO8.pdf
footprint LT-S8-8_N (SOIC, 8-Leads, Body 5x4mm, Pitch 1.27mm, IPC Medium Density)
footprint LT-S8-8_L (SOIC, 8-Leads, Body 5x4mm, Pitch 1.27mm, IPC High Density)
footprint LT-S8-8_M (SOIC, 8-Leads, Body 5x4mm, Pitch 1.27mm, IPC Low Density)
pins: 1 UV (in) "Undervoltage Sense. UV is an input that enables the output voltage. When UV is driven above 4V, GATE will start charging and the output turns on. When UV goes below 3.6V, GATE discharges and the output shuts off. Pulsing UV (See Datasheet)", 2 FB (in) "Power Good Comparator Input. FB monitors the output voltage through an external resistive divider. When the voltage on FB is lower than the high-to-low threshold of 3.99V, PWRGD is pulled low and released when FB is pulled (See Datasheet)", 3 PWRGD (hiz) "Power Good Output. PWRGD is pulled low whenever the voltage on FB falls below the 3.99V high-to-low threshold voltage. It goes into a high impedance state when the voltage on FB exceeds the low-to-high threshold voltage. An (See Datasheet)", 4 GND (power) "Device Ground. This pin must be tied to a ground plane for best performance.", 5 TIMER (in) "Timing Input. An external timing capacitor from TIMER to GND programs the maximum time the part is allowed to remain in current limit. When the part goes into current limit, a 105uA pull-up current source starts to charge (See Datasheet)", 6 GATE (out) "High Side Gate Drive for the External NChannel MOSFET. An internal charge pump guarantees at least 10V of gate drive for VCC supply voltages above 20V and 4.5V of gate drive for VCC supply voltages between 10.8V and 20V. The (See Datasheet)", 7 SENSE (in) "Current Limit Sense Input. A sense resistor is placed in the supply path between VCC and SENSE. The current limit circuit regulates the voltage across the sense resistor (VCC - SENSE) to 55mV while in current limit when FB (See Datasheet)", 8 VCC (power) "Input Supply Voltage. The positive supply input ranges from 10.8V to 80V for normal operation. ICC is typically 1.8mA. An internal circuit disables the LT4256-1/LT4256-2 for inputs less than 9.8V (typ)."

## LT4256-2CS8#PBF
designator U?
Positive High Voltage Hot Swap Controller, 10.8 to 80 V Vin, 8-pin SOIC (S8-8), 0 to 70 degC, Pb-Free; Manufacturer: Linear Technology; PartNumber: LT4256-2CS8#PBF; Active Limiting: yes; Circuit Breaker Accuracy(%): 18; Circuit Breaker Threshold: 55 mV; Circuit Breakers(#): 1; Extended Temp: C, I; Fast Comparator: no; In-Rush Current: Active; DatasheetVersion: Rev. A; PackageVersion: Rev. G, 03/2012; PackageReference: S8-8; PackageDescription: 8-Pin Plastic Small Outline (Narrow .150 Inch), Body 4.9 x 3.9 mm, Pitch 1.27 mm; Supplier 1: Digi-Key; Supplier Part Number 1: LT4256-2CS8#PBF-ND; Supplier 2: Farnell; Supplier Part Number 2: 2295308; Supplier 3: Newark; Supplier Part Number 3: 57M8690; Fault: no; Foldback: yes; Power Good: yes; Reset: no; RoHS: TRUE; Vin Range: 10.8 to 80 V; Mounting Technology: Surface Mount; ComponentLink1Description: Manufacturer URL; ComponentLink1URL: http://www.linear.com/; ComponentLink2Description: Datasheet; ComponentLink2URL: http://cds.linear.com/docs/en/datasheet/425612fa.pm6.pdf; ComponentLink3Description: Package Specification; ComponentLink3URL: http://cds.linear.com/docs/en/packaging/05081610_G_SO8.pdf
footprint LT-S8-8_N (SOIC, 8-Leads, Body 5x4mm, Pitch 1.27mm, IPC Medium Density)
footprint LT-S8-8_L (SOIC, 8-Leads, Body 5x4mm, Pitch 1.27mm, IPC High Density)
footprint LT-S8-8_M (SOIC, 8-Leads, Body 5x4mm, Pitch 1.27mm, IPC Low Density)
pins: 1 UV (in) "Undervoltage Sense. UV is an input that enables the output voltage. When UV is driven above 4V, GATE will start charging and the output turns on. When UV goes below 3.6V, GATE discharges and the output shuts off. Pulsing UV (See Datasheet)", 2 FB (in) "Power Good Comparator Input. FB monitors the output voltage through an external resistive divider. When the voltage on FB is lower than the high-to-low threshold of 3.99V, PWRGD is pulled low and released when FB is pulled (See Datasheet)", 3 PWRGD (hiz) "Power Good Output. PWRGD is pulled low whenever the voltage on FB falls below the 3.99V high-to-low threshold voltage. It goes into a high impedance state when the voltage on FB exceeds the low-to-high threshold voltage. An (See Datasheet)", 4 GND (power) "Device Ground. This pin must be tied to a ground plane for best performance.", 5 TIMER (in) "Timing Input. An external timing capacitor from TIMER to GND programs the maximum time the part is allowed to remain in current limit. When the part goes into current limit, a 105uA pull-up current source starts to charge (See Datasheet)", 6 GATE (out) "High Side Gate Drive for the External NChannel MOSFET. An internal charge pump guarantees at least 10V of gate drive for VCC supply voltages above 20V and 4.5V of gate drive for VCC supply voltages between 10.8V and 20V. The (See Datasheet)", 7 SENSE (in) "Current Limit Sense Input. A sense resistor is placed in the supply path between VCC and SENSE. The current limit circuit regulates the voltage across the sense resistor (VCC - SENSE) to 55mV while in current limit when FB (See Datasheet)", 8 VCC (power) "Input Supply Voltage. The positive supply input ranges from 10.8V to 80V for normal operation. ICC is typically 1.8mA. An internal circuit disables the LT4256-1/LT4256-2 for inputs less than 9.8V (typ)."